# Altium schematic symbol library CAP,Cer,680nF,25V,X7R,0805.Schlib: 1 symbol
Pins are listed as number, name and electrical type; pins without a type are passive.

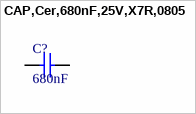
[diagram p0: symbol CAP,Cer,680nF,25V,X7R,0805]

## CAP,Cer,680nF,25V,X7R,0805
designator C?, comment 680nF
0.68 µF ±10% 25V Ceramic Capacitor X7R 0805 (2012 Metric)
pins: 1, 2